# EAGLE library part ARDUINO_PRO_MINI (library SRG)
Arduino Pro-Mini Made by Sparkfun Comes in 3.3 volt <http://www.sparkfun.com/products/11113> and 5 volt <http://www.sparkfun.com/products/11114> versions Note: A6 & A7 are analog in only
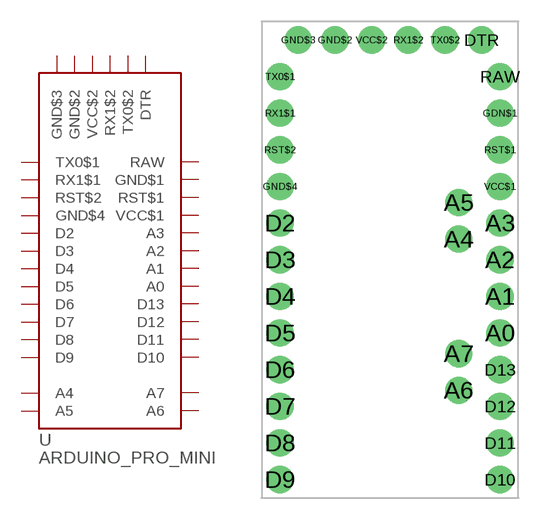
[diagram p10: symbol with the pads of ARDUINO_PRO_MINI; footprint ARDUINO_PRO_MINI]

Designator prefix -

## ARDUINO_PRO_MINI  [ARDUINO_PRO_MINI]
A0  A0
A1  A1
A2  A2
A3  A3
A4  A4
A5  A5
A6  A6  in
A7  A7  in
D2  D2
D3  D3
D4  D4
D5  D5
D6  D6
D7  D7
D8  D8
D9  D9
D10  D10
D11  D11
D12  D12
D13  D13
DTR  DTR  in
GDN$1  GND$1  pwr
GND$2  GND$2  pwr
GND$3  GND$3  pwr
GND$4  GND$4  pwr
RAW  RAW  pwr
RST$1  RST$1  in
RST$2  RST$2  in
RX1$1  RX1$1
RX1$2  RX1$2
TX0$1  TX0$1
TX0$2  TX0$2
VCC$1  VCC$1  pwr
VCC$2  VCC$2  pwr

## Footprint ARDUINO_PRO_MINI (pad centres in mm)
Arduino Pro-Mini Made by Sparkfun
drill 1.016 pad 1.88: A0 7.62,-5.08; A1 7.62,-2.54; A2 7.62,0; A3 7.62,2.54; A4 4.763,1.429; A5 4.763,3.969; A6 4.763,-9.049; A7 4.763,-6.509; D2 -7.62,2.54; D3 -7.62,0; D4 -7.62,-2.54; D5 -7.62,-5.08; D6 -7.62,-7.62; D7 -7.62,-10.16; D8 -7.62,-12.7; D9 -7.62,-15.24; D10 7.62,-15.24; D11 7.62,-12.7; D12 7.62,-10.16; D13 7.62,-7.62; DTR 6.35,15.24; GDN$1 7.62,10.16; GND$2 -3.81,15.24; GND$3 -6.35,15.24; GND$4 -7.62,5.08; RAW 7.62,12.7; RST$1 7.62,7.62; RST$2 -7.62,7.62; RX1$1 -7.62,10.16; RX1$2 1.27,15.24; TX0$1 -7.62,12.7; TX0$2 3.81,15.24; VCC$1 7.62,5.08; VCC$2 -1.27,15.24